# Altium schematic symbol library LM5000 Backlight Driver.SchLib: 1 symbol
Pins are listed as number, name and electrical type; pins without a type are passive.

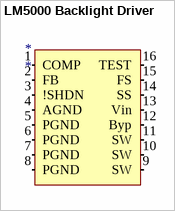
[diagram p0: symbol LM5000 Backlight Driver]

## LM5000 Backlight Driver
designator *
pins: 1 COMP (in), 2 FB (in), 3 !SHDN (in), 4 AGND (in), 5 PGND (in), 6 PGND (in), 7 PGND (in), 8 PGND (in), 9 SW (in), 10 SW (in), 11 SW (in), 12 Byp (in), 13 Vin (in), 14 SS (in), 15 FS (in), 16 TEST (in)